# EAGLE library part MCP23017-E/SP (library IO-Expanders)
MCP23017 16 pin IO Expander using I2C bus
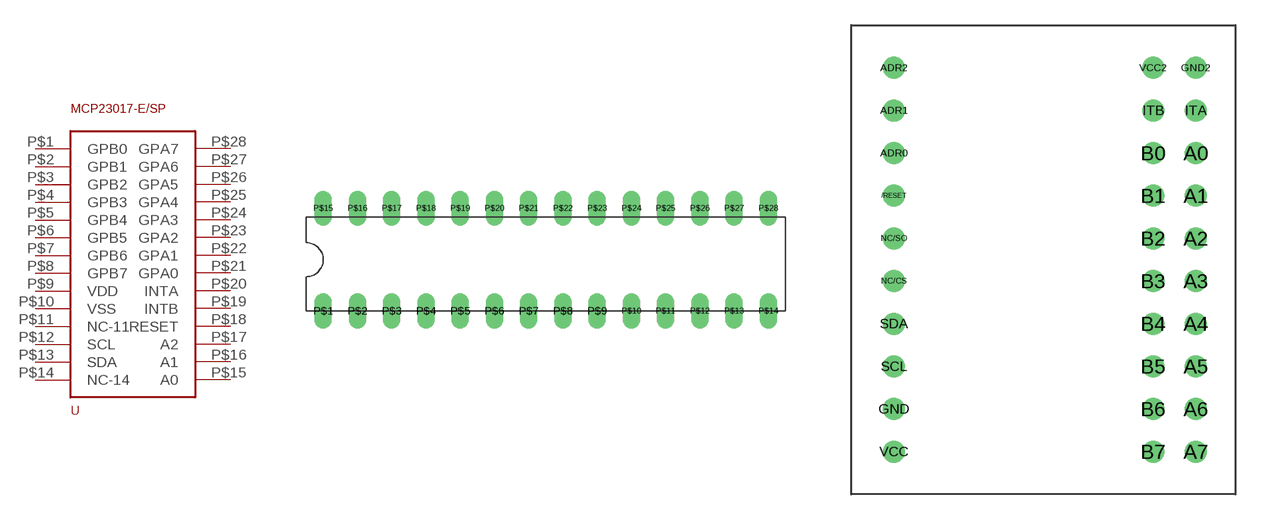
[diagram p0: symbol with the pads of DIP28; footprints DIP28, MODULE]

Designator prefix -

## MCP23017-E/SPDIP (MCP23017-ESP: DIP)  [DIP28]
P$1  GPB0
P$2  GPB1
P$3  GPB2
P$4  GPB3
P$5  GPB4
P$6  GPB5
P$7  GPB6
P$8  GPB7
P$9  VDD
P$10  VSS
P$11  NC-11
P$12  SCL
P$13  SDA
P$14  NC-14
P$15  A0
P$16  A1
P$17  A2
P$18  RESET
P$19  INTB
P$20  INTA
P$21  GPA0
P$22  GPA1
P$23  GPA2
P$24  GPA3
P$25  GPA4
P$26  GPA5
P$27  GPA6
P$28  GPA7

## MCP23017-E/SP  [MODULE]
/RESET  RESET
A0  GPA0
A1  GPA1
A2  GPA2
A3  GPA3
A4  GPA4
A5  GPA5
A6  GPA6
A7  GPA7
ADR0  A0
ADR1  A1
ADR2  A2
B0  GPB0
B1  GPB1
B2  GPB2
B3  GPB3
B4  GPB4
B5  GPB5
B6  GPB6
B7  GPB7
GND  VSS
GND2  VSS
ITA  INTA
ITB  INTB
NC/CS  NC-11
NC/SO  NC-14
SCL  SCL
SDA  SDA
VCC  VDD
VCC2  VDD

## Footprint DIP28 (pad centres in mm)
Through hole verson of MCP23017-E/SP IO Expander
drill 0.8 long: P$1 0,0; P$2 2.54,0; P$3 5.08,0; P$4 7.62,0; P$5 10.16,0; P$6 12.7,0; P$7 15.24,0; P$8 17.78,0; P$9 20.32,0; P$10 22.86,0; P$11 25.4,0; P$12 27.94,0; P$13 30.48,0; P$14 33.02,0; P$15 0,7.62; P$16 2.54,7.62; P$17 5.08,7.62; P$18 7.62,7.62; P$19 10.16,7.62; P$20 12.7,7.62; P$21 15.24,7.62; P$22 17.78,7.62; P$23 20.32,7.62; P$24 22.86,7.62; P$25 25.4,7.62; P$26 27.94,7.62; P$27 30.48,7.62; P$28 33.02,7.62

## Footprint MODULE (pad centres in mm)
drill 0.8: /RESET 0,0; A0 17.966,2.54; A1 17.966,0; A2 17.966,-2.54; A3 17.966,-5.08; A4 17.966,-7.62; A5 17.966,-10.16; A6 17.966,-12.7; A7 17.966,-15.24; ADR0 0,2.54; ADR1 0,5.08; ADR2 0,7.62; B0 15.426,2.54; B1 15.426,0; B2 15.426,-2.54; B3 15.426,-5.08; B4 15.426,-7.62; B5 15.426,-10.16; B6 15.426,-12.7; B7 15.426,-15.24; GND 0,-12.7; GND2 17.966,7.62; ITA 17.966,5.08; ITB 15.426,5.08; NC/CS 0,-5.08; NC/SO 0,-2.54; SCL 0,-10.16; SDA 0,-7.62; VCC 0,-15.24; VCC2 15.426,7.62